# Altium footprint library Male_Header_P2.54.PcbLib: 2 footprints
Each footprint in its own frame and in the unit in brackets; x right, y up, seen from the top. Pads: shape width x height; smd on the part's side, far side on the other; paste and mask are expansions set on the pad; w line width, h text height; cw(c..) or ccw(c..) is an arc to the next point about the centre after c.
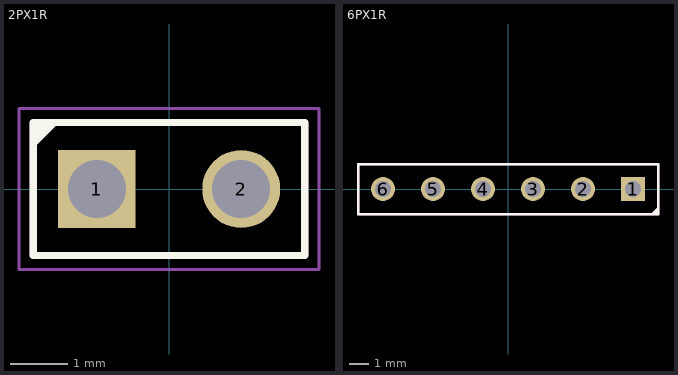
[diagram p0: the footprints below, top view; thin cyan lines are the x and y axes]

## 2PX1R [mm]
pads (2):
  rect 1.37x1.37 hole 1.02: 1(-1.27,0)
  round 1.37 hole 1.02: 2(1.27,0)
Top Overlay:
  lines w0.05: -2.391,0.764 -2.365,0.764 -1.995,1.135 -2.057,1.135 -2.347,0.844 -2.369,0.844 -2.097,1.117 -2.097,1.131 -2.315,0.913 -2.373,0.913 -2.144,1.142 -2.144,1.146 -2.307,0.982 -2.376,0.982 -2.362,0.997 -2.322,0.997 -2.22,1.099 -2.253,1.099 -2.347,1.004 -2.347,1.102 -2.34,1.11 -2.195,1.11 -2.187,1.102 -2.271,1.102 -2.34,1.033 -2.34,1.011 -2.315,1.037 -2.315,1.073 -2.322,1.08
  lines w0.127: -2.388,-1.168 2.388,-1.168 2.388,1.168 -2.388,1.168 -2.388,-1.168
Mechanical 13:
  lines w0.127: -2.388,-1.168 2.388,-1.168 ; -2.388,-1.168 2.388,-1.168 ; -2.388,-1.168 -2.388,1.168 2.388,1.168 2.388,-1.168
Mechanical 15:
  lines w0.05: -2.638,-1.418 2.638,-1.418 2.638,1.418 -2.638,1.418 -2.638,-1.418
3D body "61300211121_Download_STP_61300211121_rev1.stp": height 8.77, standoff -2.77, extent -2.54,-1.04 2.54,1.5

## 6PX1R [mm]
pads (6):
  rect 1.22x1.22 / inner round 1.22 / far side rect 1.22x1.22 hole 0.81: 1(6.35,0)
  round 1.22 hole 0.81: 2(3.81,0) 3(1.27,0) 4(-1.27,0) 5(-3.81,0) 6(-6.35,0)
Top Overlay:
  lines w0.05: 7.269,-1.233 7.33,-1.233 7.59,-0.972 7.59,-1.007 7.372,-1.226 7.413,-1.226 7.574,-1.065 7.574,-1.094 7.433,-1.236 7.471,-1.236 7.581,-1.126 7.581,-1.171 7.51,-1.242
  lines w0.127: -7.62,-1.27 -7.62,1.27 7.62,1.27 7.62,-1.27 -7.62,-1.27
Mechanical 13:
  lines w0.127: -7.62,-1.27 -7.62,1.27 7.62,1.27 7.62,-1.27 ; -7.62,-1.27 7.62,-1.27 ; -7.62,-1.27 7.62,-1.27
Mechanical 15:
  lines w0.05: -7.62,-1.25 -7.62,1.27 7.62,1.27 7.62,-1.25 -7.62,-1.25
3D body "step_temp.STEP": height 8.51, standoff -3.43, extent -7.62,-1.27 7.62,1.27